# Altium schematic symbol library PC104_singleHeader.SchLib: 3 symbols
Pins are listed as number, name and electrical type; pins without a type are passive.

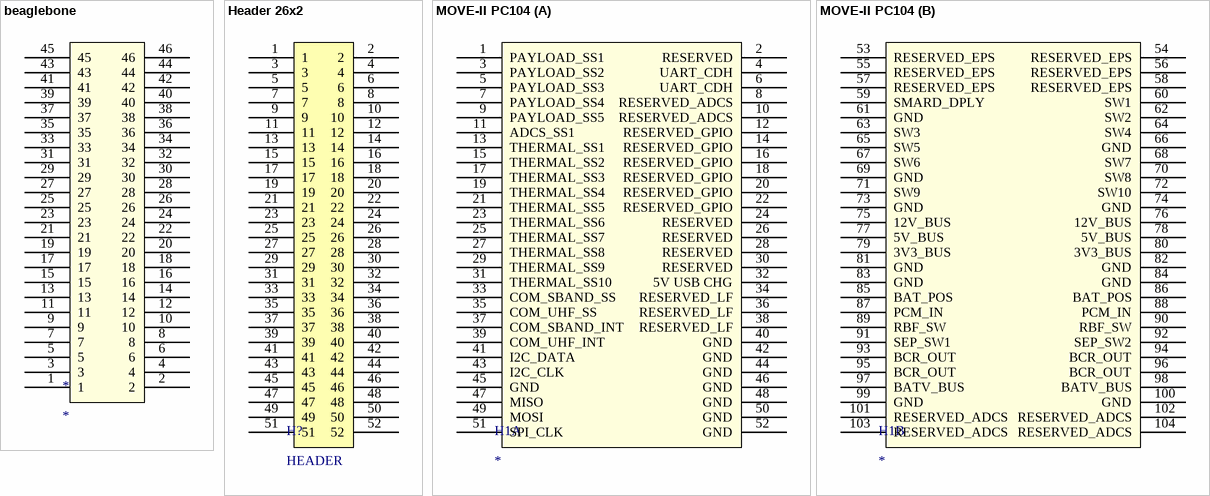
[diagram p0: symbols beaglebone to MOVE-II PC104]

## beaglebone
designator *
footprint PC104 (3rd gen 1U EPS from clydespace)
pins: 1, 2, 3, 4, 5, 6, 7, 8, 9, 10, 11, 12, 13, 14, 15, 16, 17, 18, 19, 20, 21, 22, 23, 24, 25, 26, 27, 28, 29, 30, 31, 32, 33, 34, 35, 36, 37, 38, 39, 40, 41, 42, 43, 44, 45, 46

## Header 26x2
designator H?, comment HEADER
footprint Header 26x2
pins: 1, 2, 3, 4, 5, 6, 7, 8, 9, 10, 11, 12, 13, 14, 15, 16, 17, 18, 19, 20, 21, 22, 23, 24, 25, 26, 27, 28, 29, 30, 31, 32, 33, 34, 35, 36, 37, 38, 39, 40, 41, 42, 43, 44, 45, 46, 47, 48, 49, 50, 51, 52

## MOVE-II PC104
designator H1
footprint EPS (3rd gen 1U EPS from clydespace)
footprint PC104 (3rd gen 1U EPS from clydespace)
part A pins: 1 PAYLOAD_SS1, 2 RESERVED, 3 PAYLOAD_SS2, 4 UART_CDH, 5 PAYLOAD_SS3, 6 UART_CDH, 7 PAYLOAD_SS4, 8 RESERVED_ADCS, 9 PAYLOAD_SS5, 10 RESERVED_ADCS, 11 ADCS_SS1, 12 RESERVED_GPIO, 13 THERMAL_SS1, 14 RESERVED_GPIO, 15 THERMAL_SS2, 16 RESERVED_GPIO, 17 THERMAL_SS3, 18 RESERVED_GPIO, 19 THERMAL_SS4, 20 RESERVED_GPIO, 21 THERMAL_SS5, 22 RESERVED_GPIO, 23 THERMAL_SS6, 24 RESERVED, 25 THERMAL_SS7, 26 RESERVED, 27 THERMAL_SS8, 28 RESERVED, 29 THERMAL_SS9, 30 RESERVED, 31 THERMAL_SS10, 32 5V USB CHG, 33 COM_SBAND_SS, 34 RESERVED_LF, 35 COM_UHF_SS, 36 RESERVED_LF, 37 COM_SBAND_INT, 38 RESERVED_LF, 39 COM_UHF_INT, 40 GND, 41 I2C_DATA, 42 GND, 43 I2C_CLK, 44 GND, 45 GND, 46 GND, 47 MISO, 48 GND, 49 MOSI, 50 GND, 51 SPI_CLK, 52 GND
part B pins: 53 RESERVED_EPS, 54 RESERVED_EPS, 55 RESERVED_EPS, 56 RESERVED_EPS, 57 RESERVED_EPS, 58 RESERVED_EPS, 59 SMARD_DPLY, 60 SW1, 61 GND, 62 SW2, 63 SW3, 64 SW4, 65 SW5, 66 GND, 67 SW6, 68 SW7, 69 GND, 70 SW8, 71 SW9, 72 SW10, 73 GND, 74 GND, 75 12V_BUS, 76 12V_BUS, 77 5V_BUS, 78 5V_BUS, 79 3V3_BUS, 80 3V3_BUS, 81 GND, 82 GND, 83 GND, 84 GND, 85 BAT_POS, 86 BAT_POS, 87 PCM_IN, 88 PCM_IN, 89 RBF_SW, 90 RBF_SW, 91 SEP_SW1, 92 SEP_SW2, 93 BCR_OUT, 94 BCR_OUT, 95 BCR_OUT, 96 BCR_OUT, 97 BATV_BUS, 98 BATV_BUS, 99 GND, 100 GND, 101 RESERVED_ADCS, 102 RESERVED_ADCS, 103 RESERVED_ADCS, 104 RESERVED_ADCS